# Altium schematic symbol library TL1015AF160QG.SchLib: 1 symbol
Pins are listed as number, name and electrical type; pins without a type are passive.

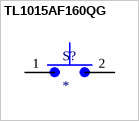
[diagram p0: symbol TL1015AF160QG]

## TL1015AF160QG
designator S?
Tactile Switch SPST-NO Top Actuated Surface Mount; MP: TL1015AF160QG; Package: None; Availability: Unavailable; Value: *; Price: None
footprint SW_TL1015AF160QG
pins: 1, 2